# Altium footprint library ELEC(6.3X8.0)-SMD.PcbLib: 1 footprints
Each footprint in its own frame and in the unit in brackets; x right, y up, seen from the top. Pads: shape width x height; smd on the part's side, far side on the other; paste and mask are expansions set on the pad; w line width, h text height; cw(c..) or ccw(c..) is an arc to the next point about the centre after c.
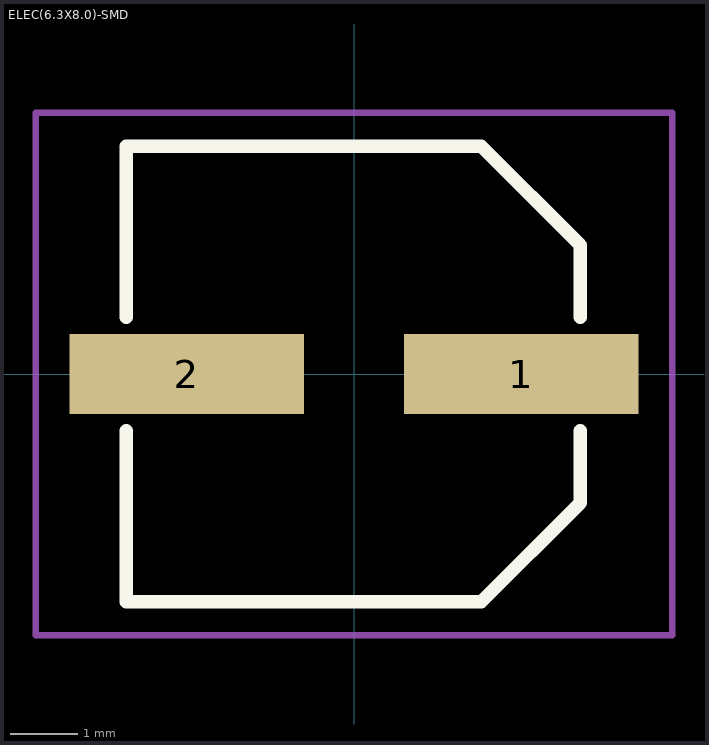
[diagram p0: the footprint, top view; thin cyan lines are the x and y axes]

## ELEC(6.3X8.0)-SMD [mm]
pads (2):
  rect 3.5x1.2 smd: 1(2.5,0) 2(-2.5,0)
Top Overlay:
  lines w0.2: -3.4,-0.85 -3.4,-3.4 1.9,-3.4 3.375,-1.925 3.375,-0.85 ; -3.4,0.85 -3.4,3.4 1.9,3.4 3.375,1.925 3.375,0.85
Top Courtyard:
  lines w0.1: -4.75,-0.6 -4.75,-3.9 ; -3.8,-3.9 -4.75,-3.9 ; 3.8,3.9 4.75,3.9 ; 4.75,0.6 4.75,3.9 ; -4.75,-3.9 -4.75,3.9 4.75,3.9 ; -4.75,-3.9 4.75,-3.9 4.75,3.9
3D body "EDH107M010A9HAA.step": height 8.01, standoff 0, extent -3.8,-3.4 3.8,3.4